# Altium footprint library XC6220B331PR-G_PCB.PcbLib: 27 footprints (part 1 of 2)
Each footprint in its own frame and in the unit in brackets; x right, y up, seen from the top. Pads: shape width x height; smd on the part's side, far side on the other; paste and mask are expansions set on the pad; w line width, h text height; cw(c..) or ccw(c..) is an arc to the next point about the centre after c.
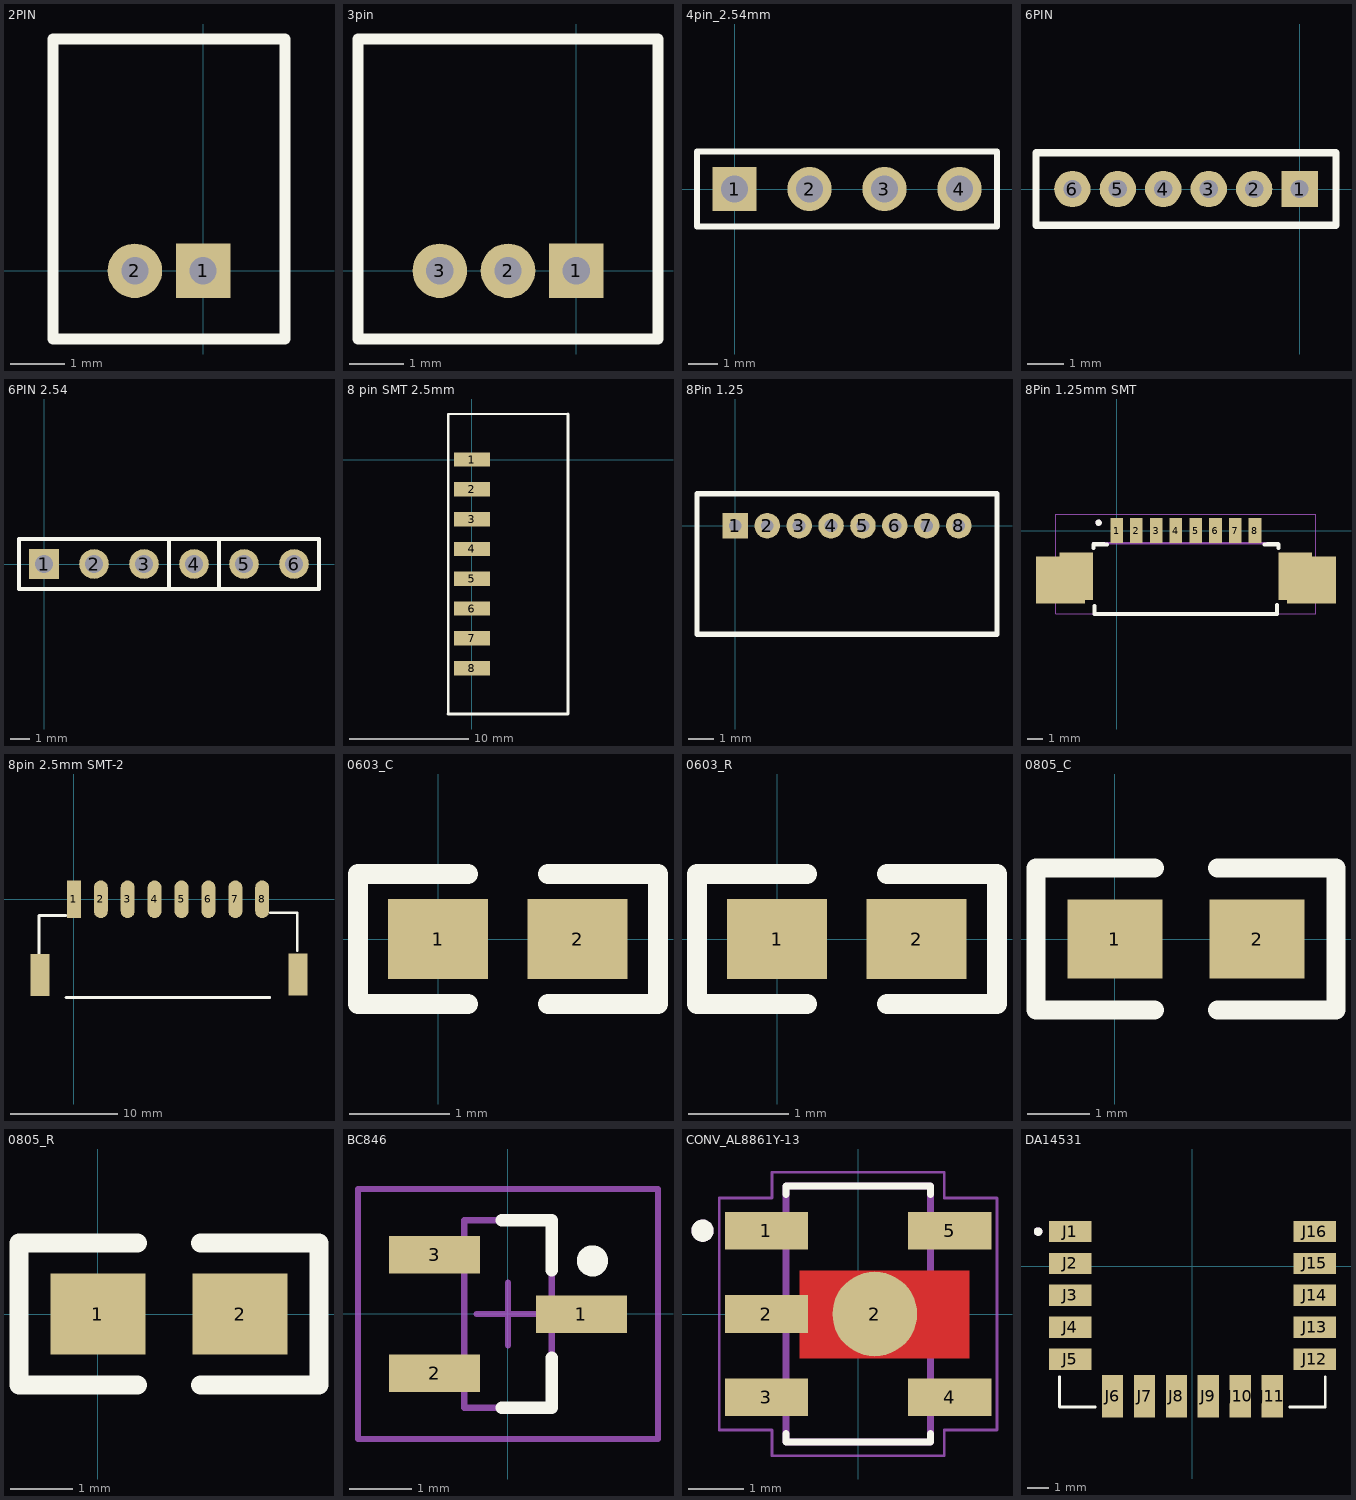
[diagram p0: the footprints below, top view; thin cyan lines are the x and y axes]

## 2PIN [mm]
pads (2):
  rect 1x1 hole 0.5: 1(0,0)
  round 1 hole 0.5: 2(-1.25,0)
Top Overlay:
  lines w0.203: -2.75,-1.25 -2.75,4.25 1.5,4.25 1.5,-1.25 -2.75,-1.25

## 3pin [mm]
pads (3):
  rect 1x1 hole 0.5: 1(0,0)
  round 1 hole 0.5: 2(-1.25,0) 3(-2.5,0)
Top Overlay:
  lines w0.203: -4,-1.25 -4,4.25 1.5,4.25 1.5,-1.25 -4,-1.25

## 4pin_2.54mm [mm]
pads (4):
  rect 1.5x1.5 hole 0.9: 1(0,0)
  round 1.5 hole 0.9: 2(2.54,0) 3(5.08,0) 4(7.62,0)
Top Overlay:
  lines w0.2: -1.27,-1.27 8.89,-1.27 8.89,1.27 -1.27,1.27 -1.27,-1.27

## 6PIN [mm]
pads (6):
  rect 1x1 hole 0.5: 1(0,0)
  round 1 hole 0.5: 2(-1.25,0) 3(-2.5,0) 4(-3.75,0) 5(-5,0) 6(-6.25,0)
Top Overlay:
  lines w0.203: -7.25,-1 1,-1 1,1 -7.25,1 -7.25,-1

## 6PIN 2.54 [mm]
pads (6):
  rect 1.5x1.5 hole 0.9: 1(0,0)
  round 1.5 hole 0.9: 2(2.54,0) 3(5.08,0) 4(7.62,0) 5(10.16,0) 6(12.7,0)
Top Overlay:
  lines w0.2: 13.9,1.27 6.35,1.27 6.35,-1.27 13.95,-1.27 ; 13.97,-1.27 13.97,1.27 ; -1.27,-1.27 -1.27,1.27 8.89,1.27 8.89,-1.27 -1.27,-1.27

## 8 pin SMT 2.5mm [mm]
pads (8):
  rect 3x1.2 smd: 1(0,0) 2(0,-2.5) 3(0,-5) 4(0,-7.5) 5(0,-10) 6(0,-12.5) 7(0,-15) 8(0,-17.5)
Top Overlay:
  lines w0.2: -2,-21.35 -2,3.825 8.05,3.825
  lines w0.254: -2,-21.35 8.05,-21.35 8.05,3.825

## 8Pin 1.25 [mm]
pads (8):
  rect 1x1 hole 0.5: 1(0,0)
  round 1 hole 0.5: 2(1.25,0) 3(2.5,0) 4(3.75,0) 5(5,0) 6(6.25,0) 7(7.5,0) 8(8.75,0)
Top Overlay:
  lines w0.203: 1,-4.25 6.5,-4.25 ; 1,1.25 6.5,1.25 ; 3.5,-4.25 9,-4.25 ; 3.5,1.25 9,1.25 ; 4,-4.25 -1.5,-4.25 -1.5,1.25 4,1.25 ; 6,-4.25 10.25,-4.25 10.25,1.25 6,1.25

## 8Pin 1.25mm SMT [mm]
pads (12):
  rect 0.8x1.6 smd: 1(0,0.025) 2(1.25,0.025) 3(2.5,0.025) 4(3.75,0.025) 5(5,0.025) 6(6.25,0.025) 7(7.5,0.025) 8(8.75,0.025)
  rect 3.1x3 smd: ""(-3.55,-3.1) ""(12.326,-3.1)
  rect 2.1x3 smd: ""(-2.55,-2.875) ""(11.3,-2.875)
Top Overlay:
  circle w0.2: c-1.14,0.525 r0.1
  lines w0.127: -1.5,-0.775 -0.775,-0.775 ; 9.525,-0.775 10.25,-0.775
  lines w0.254: -1.45,-1.075 -1.45,-0.85 -0.6,-0.85 ; -1.4,-4.75 -1.4,-5.25 10.15,-5.25 10.15,-4.675 ; 9.35,-0.85 10.225,-0.85 10.225,-1.075
Mechanical 13:
  circle w0.2: c-1.14,0.525 r0.1
  lines w0.127: -1.5,-0.775 10.25,-0.775
Mechanical 15:
  lines w0.05: -3.85,-5.225 -3.85,1.075 12.6,1.075 12.6,-5.225 -3.85,-5.225

## 8pin 2.5mm SMT-2 [mm]
pads (10):
  rect 1.3x3.5 smd: 1(0,0)
  oval 1.3x3.5 smd: 2(2.5,0) 3(5,0) 4(7.5,0) 5(10,0) 6(12.5,0) 7(15,0) 8(17.5,0)
  rect 1.8x3.9 smd: ""(-3.15,-7.05) ""(20.825,-6.975)
Top Overlay:
  lines w0.254: -3.25,-5 -3.25,-1.5 -0.75,-1.5 ; -0.725,-9.125 18.2,-9.125 ; 18.25,-1.25 20.75,-1.25 20.75,-4.75

## 0603_C [mm]
pads (2):
  rect 1x0.8 smd: 1(0,0) 2(1.397,0)
Top Overlay:
  lines w0.2: 0.3,-0.65 -0.8,-0.65 -0.8,0.65 0.3,0.65 ; 1.1,-0.65 2.2,-0.65 2.2,0.65 1.1,0.65

## 0603_R [mm]
pads (2):
  rect 1x0.8 smd: 1(0,0) 2(1.397,0)
Top Overlay:
  lines w0.2: 0.3,-0.65 -0.8,-0.65 -0.8,0.65 0.3,0.65 ; 1.1,-0.65 2.2,-0.65 2.2,0.65 1.1,0.65

## 0805_C [mil]
pads (2):
  rect 60x50 smd: 1(0,0) 2(90,0)
Top Overlay:
  lines w12: 25,-45 -50,-45 -50,45 25,45 ; 65,-45 140,-45 140,45 65,45

## 0805_R [mil]
pads (2):
  rect 60x51.18 smd: 1(0,0) 2(90,0)
Top Overlay:
  lines w12: 25,-45 -50,-45 -50,45 25,45 ; 65,-45 140,-45 140,45 65,45

## BC846 [mm]
pads (3):
  rect 1.45x0.6 smd: 1(1.181,-0.002) 2(-1.169,-0.952) 3(-1.169,0.948)
Top Overlay:
  circle w0.25: c1.356,0.848 r0.125
  lines w0.2: -0.094,-1.502 0.706,-1.502 0.706,-0.702 ; -0.094,1.498 0.706,1.498 0.706,0.698
Mechanical 13:
  lines w0.1: -0.694,-1.502 0.706,-1.502 0.706,1.498 -0.694,1.498 -0.694,-1.502
Mechanical 15:
  lines w0.1: -0.494,-0.002 0.506,-0.002 ; 0.006,-0.502 0.006,0.498 ; -2.394,-2.002 2.406,-2.002 2.406,1.998 -2.394,1.998 -2.394,-2.002
3D body: height 1.1, standoff 0, extent -0.694,-1.502 0.706,1.498

## CONV_AL8861Y-13 [mm]
pads (6):
  rect 1.5x0.68 smd: 1(-1.65,1.5) 3(-1.65,-1.5) 4(1.65,-1.5) 5(1.65,1.5)
  rect 1.5x0.68 smd paste-2 mask+0: 2(-1.65,0)
  round 1.524 smd: 2(0.3,0)
Top Layer:
  region: 2,-0.8 -1.05,-0.8 -1.05,-0.34 -2.25,-0.34 -2.25,0.34 -1.05,0.34 -1.05,0.775 2,0.775
Top Overlay:
  circle w0.2: c-2.8,1.5 r0.1
  lines w0.127: -1.3,-2.154 -1.3,-2.3 1.3,-2.3 1.3,-2.154 ; -1.3,2.154 -1.3,2.3 1.3,2.3 1.3,2.154
Top Paste:
  region: 2,-0.8 -1.05,-0.8 -1.05,-0.34 -2.25,-0.34 -2.25,0.34 -1.05,0.34 -1.05,0.775 2,0.775
Top Solder:
  region: 2.1,-1.065 -1.15,-1.065 -1.15,-0.44 -2.475,-0.44 -2.475,0.44 -1.15,0.44 -1.15,1.065 2.1,1.065
Mechanical 13:
  circle w0.2: c-2.8,1.5 r0.1
  lines w0.127: -1.3,-2.3 -1.3,2.3 1.3,2.3 1.3,-2.3 -1.3,-2.3
Mechanical 15:
  lines w0.05: -2.5,-2.09 -2.5,2.09 -1.55,2.09 -1.55,2.55 1.55,2.55 1.55,2.09 2.5,2.09 2.5,-2.09 1.55,-2.09 1.55,-2.55 -1.55,-2.55 -1.55,-2.09 -2.5,-2.09

## DA14531 [mm]
pads (32):
  rect 2x1 smd: J1(-5.75,1.635) J2(-5.75,0.135) J3(-5.75,-1.365) J4(-5.75,-2.865) J5(-5.75,-4.365) J12(5.75,-4.365) J13(5.75,-2.865) J14(5.75,-1.365) J15(5.75,0.135) J16(5.75,1.635)
  rect 0.1x0.1 smd paste-1 mask+0: J1(-5.75,1.635) J2(-5.75,0.135) J3(-5.75,-1.365) J4(-5.75,-2.865) J5(-5.75,-4.365) J6(-3.75,-6.115) J7(-2.25,-6.115) J8(-0.75,-6.115) J9(0.75,-6.115) J10(2.25,-6.115) J11(3.75,-6.115) J12(5.75,-4.365) J13(5.75,-2.865) J14(5.75,-1.365) J15(5.75,0.135) J16(5.75,1.635)
  rect 1x2 smd: J6(-3.75,-6.115) J7(-2.25,-6.115) J8(-0.75,-6.115) J9(0.75,-6.115) J10(2.25,-6.115) J11(3.75,-6.115)
Top Overlay:
  circle w0.2: c-7.25,1.635 r0.1
  lines w0.127: -6.25,-5.185 -6.25,-6.615 -4.57,-6.615 ; 4.57,-6.615 6.25,-6.615 6.25,-5.185
Mechanical 13:
  circle w0.2: c-7.25,1.635 r0.1